# EAGLE library part PROTO10POS (library hijack)
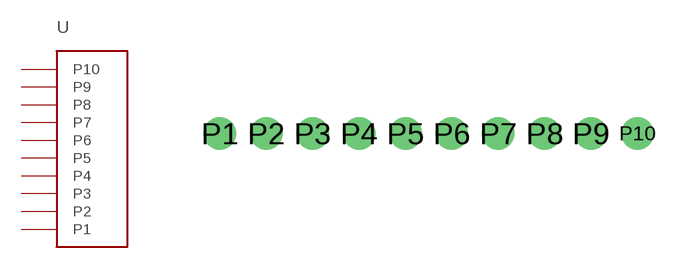
[diagram p2: symbol with the pads of 10PINPROTO; footprint 10PINPROTO]

Designator prefix -

## PROTO10POS  [10PINPROTO]
P1  P1
P2  P2
P3  P3
P4  P4
P5  P5
P6  P6
P7  P7
P8  P8
P9  P9
P10  P10

## Footprint 10PINPROTO (pad centres in mm)
drill 0.89 pad 1.346: P1 -9,0; P2 -7,0; P3 -5,0; P4 -3,0; P5 -1,0; P6 1,0; P7 3,0; P8 5,0; P9 7,0; P10 9,0